# Altium schematic symbol library Schematic_Library_DaughterBoard.SchLib: 4 symbols
Pins are listed as number, name and electrical type; pins without a type are passive.

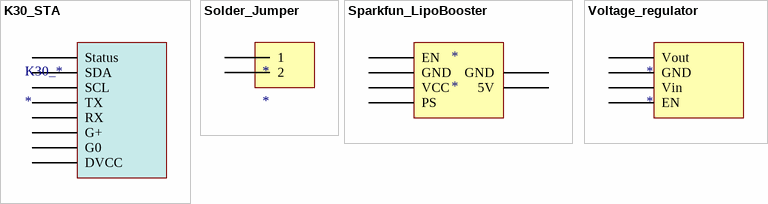
[diagram p0: symbols K30_STA to Voltage_regulator]

## K30_STA
designator K30_*
footprint K30_STA
pins: 1 Status, 2 SDA, 3 SCL, 4 TX, 5 RX, 6 G+, 7 G0, 8 DVCC

## Solder_Jumper
designator *
footprint Solder_Jumper_Footprint
pins: 1, 2

## Sparkfun_LipoBooster
designator *
footprint Sparkfun_lipoBooster
pins: 1 EN, 2 GND, 3 VCC, 4 PS, 5 5V, 6 GND

## Voltage_regulator
designator *
footprint Voltage_Regulator
pins: 1 Vout, 2 GND, 3 Vin, 4 EN